# Altium schematic symbol library MCP23S09.SchLib: 1 symbol
Pins are listed as number, name and electrical type; pins without a type are passive.

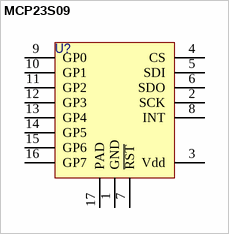
[diagram p0: symbol MCP23S09]

## MCP23S09
designator U?  (value not drawn)
pins: 1 GND, 2 SCK, 3 Vdd, 4 CS, 5 SDI, 6 SDO, 7 ~{RST}, 8 INT, 9 GP0, 10 GP1, 11 GP2, 12 GP3, 13 GP4, 14 GP5, 15 GP6, 16 GP7, 17 PAD